# EAGLE library part CC3200 (library GRITSBot)
CC3200 SimpleLink™ Wi-Fi® and Internet-of-Things Solution, a Single-Chip Wireless MCU Start your design with the industry’s first Wi-Fi CERTIFIED single-chip microcontroller unit (MCU) with built-in Wi-Fi connectivity. Created for the Internet of Things (IoT), the SimpleLink CC3200 device is a wireless MCU that integrates a high-performance ARM Cortex-M4 MCU, allowing customers to develop an entire application with a single IC. With on-chip Wi-Fi, Internet, and robust security protocols, no prior Wi- Fi experience is required for faster development. The CC3200 device is a complete platform solution including software, sample applications, tools, user and programming guides, reference designs, and the TI E2E™ support community. The device is available in a QFN package that is easy to layout. The applications MCU subsystem contains an industry-standard ARM Cortex-M4 core running at 80 MHz. The device includes a wide variety of peripherals, including a fast parallel camera interface, I2S, SD/MMC, UART, SPI, I2C, and four-channel ADC. The CC3200 family includes flexible embedded RAM for code and data and ROM with external serial flash bootloader and peripheral drivers. The Wi-Fi network processor subsystem features a Wi-Fi Internet-on-a-Chip and contains an additional dedicated ARM MCU that completely offloads the applications MCU. This subsystem includes an 802.11 b/g/n radio, baseband, and MAC with a powerful crypto engine for fast, secure Internet connections with 256-bit encryption. The CC3200 device supports Station, Access Point, and Wi-Fi Direct modes. The device also supports WPA2 personal and enterprise security and WPS 2.0. The Wi-Fi Internet-on-a-chip includes embedded TCP/IP and TLS/SSL stacks, HTTP server, and multiple Internet protocols. The power-management subsystem includes integrated DC-DC converters supporting a wide range of supply voltages. This subsystem enables low-power consumption modes, such as the hibernate with RTC mode requiring less than 4 μA of current. Datasheet: http://www.ti.com/lit/ds/symlink/cc3200.pdf Purchase at: http://www.digikey.com/product-detail/en/CC3200R1M2RGC/296-38012-ND/4959129
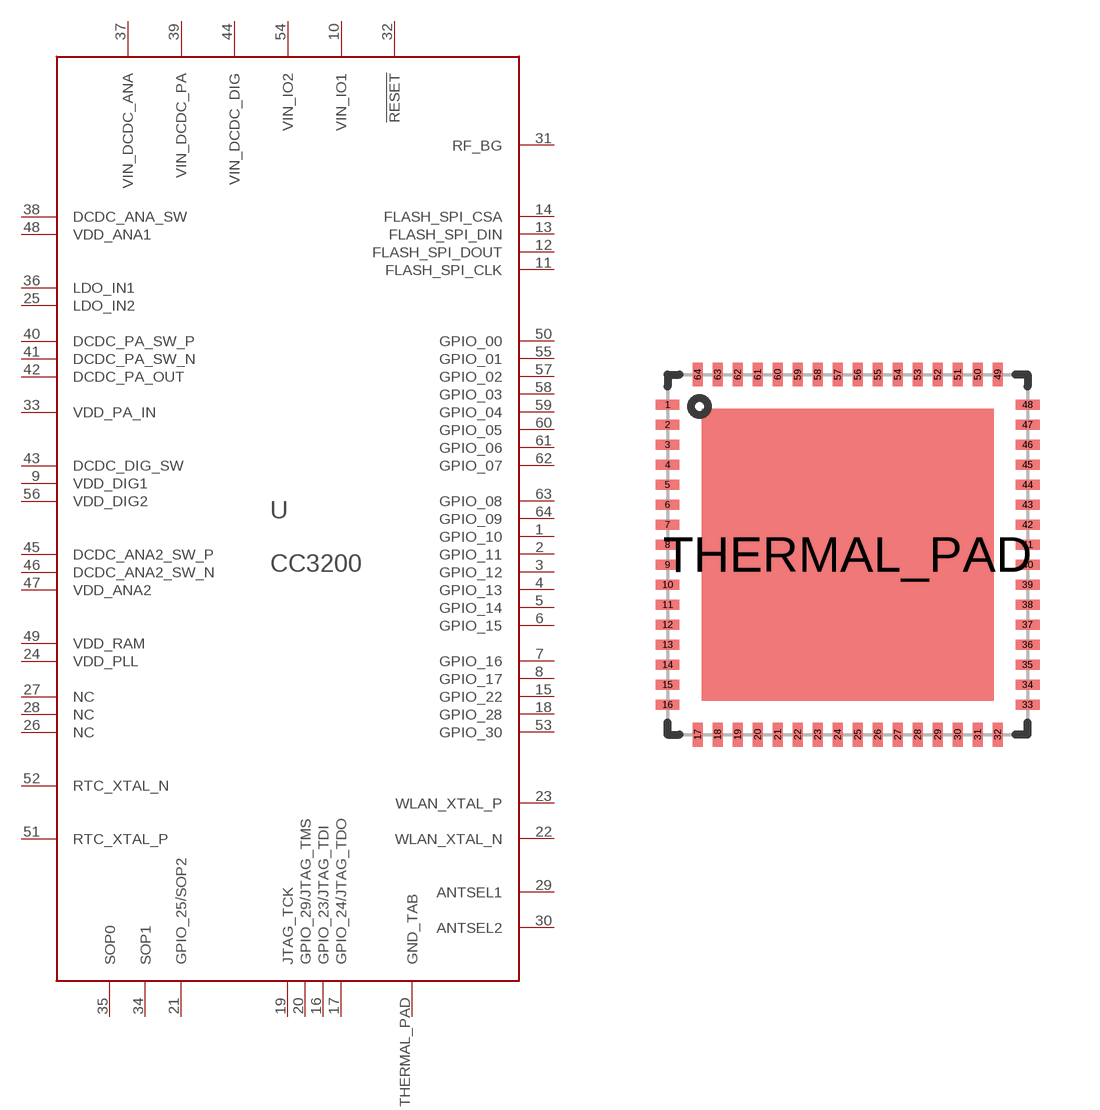
[diagram p25: symbol with the pads of QFN-64; footprint QFN-64]

Designator prefix -

## CC3200  [QFN-64]
1  GPIO_10
2  GPIO_11
3  GPIO_12
4  GPIO_13
5  GPIO_14
6  GPIO_15
7  GPIO_16
8  GPIO_17
9  VDD_DIG1
10  VIN_IO1
11  FLASH_SPI_CLK
12  FLASH_SPI_DOUT
13  FLASH_SPI_DIN
14  FLASH_SPI_CSA
15  GPIO_22
16  GPIO_23/JTAG_TDI
17  GPIO_24/JTAG_TDO
18  GPIO_28
19  JTAG_TCK
20  GPIO_29/JTAG_TMS
21  GPIO_25/SOP2
22  WLAN_XTAL_N
23  WLAN_XTAL_P
24  VDD_PLL
25  LDO_IN2
26  NC
27  NC
28  NC
29  ANTSEL1
30  ANTSEL2
31  RF_BG
32  !RESET
33  VDD_PA_IN
34  SOP1
35  SOP0
36  LDO_IN1
37  VIN_DCDC_ANA
38  DCDC_ANA_SW
39  VIN_DCDC_PA
40  DCDC_PA_SW_P
41  DCDC_PA_SW_N
42  DCDC_PA_OUT
43  DCDC_DIG_SW
44  VIN_DCDC_DIG
45  DCDC_ANA2_SW_P
46  DCDC_ANA2_SW_N
47  VDD_ANA2
48  VDD_ANA1
49  VDD_RAM
50  GPIO_00
51  RTC_XTAL_P
52  RTC_XTAL_N
53  GPIO_30
54  VIN_IO2
55  GPIO_01
56  VDD_DIG2
57  GPIO_02
58  GPIO_03
59  GPIO_04
60  GPIO_05
61  GPIO_06
62  GPIO_07
63  GPIO_08
64  GPIO_09
THERMAL_PAD  GND_TAB

## Footprint QFN-64 (pad centres in mm)
QFN package with a 6x8 pin configuration.
smd 0.6 x 0.25: 1 -4.5,3.75; 2 -4.5,3.25; 3 -4.5,2.75; 4 -4.5,2.25; 5 -4.5,1.75; 6 -4.5,1.25; 7 -4.5,0.75; 8 -4.5,0.25; 9 -4.5,-0.25; 10 -4.5,-0.75; 11 -4.5,-1.25; 12 -4.5,-1.75; 13 -4.5,-2.25; 14 -4.5,-2.75; 15 -4.5,-3.25; 16 -4.5,-3.75; 33 4.5,-3.75; 34 4.5,-3.25; 35 4.5,-2.75; 36 4.5,-2.25; 37 4.5,-1.75; 38 4.5,-1.25; 39 4.5,-0.75; 40 4.5,-0.25; 41 4.5,0.25; 42 4.5,0.75; 43 4.5,1.25; 44 4.5,1.75; 45 4.5,2.25; 46 4.5,2.75; 47 4.5,3.25; 48 4.5,3.75
smd 0.25 x 0.6: 17 -3.75,-4.5; 18 -3.25,-4.5; 19 -2.75,-4.5; 20 -2.25,-4.5; 21 -1.75,-4.5; 22 -1.25,-4.5; 23 -0.75,-4.5; 24 -0.25,-4.5; 25 0.25,-4.5; 26 0.75,-4.5; 27 1.25,-4.5; 28 1.75,-4.5; 29 2.25,-4.5; 30 2.75,-4.5; 31 3.25,-4.5; 32 3.75,-4.5; 49 3.75,4.5; 50 3.25,4.5; 51 2.75,4.5; 52 2.25,4.5; 53 1.75,4.5; 54 1.25,4.5; 55 0.75,4.5; 56 0.25,4.5; 57 -0.25,4.5; 58 -0.75,4.5; 59 -1.25,4.5; 60 -1.75,4.5; 61 -2.25,4.5; 62 -2.75,4.5; 63 -3.25,4.5; 64 -3.75,4.5
smd 7.3 x 7.3: THERMAL_PAD 0,0